# Altium schematic symbol library PPPC192LFBN-RC.SchLib: 2 symbols
Pins are listed as number, name and electrical type; pins without a type are passive.

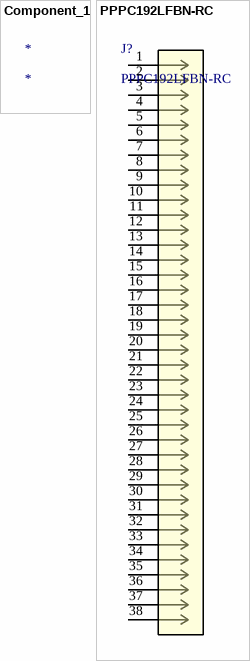
[diagram p0: symbols Component_1 to PPPC192LFBN-RC]

## Component_1
designator *

## PPPC192LFBN-RC
designator J?
No Description Available; Manufacturer_Name: Sullins; Copyright: Copyright (C) 2025 Ultra Librarian. All rights reserved.; Manufacturer_Part_Number: PPPC192LFBN-RC; RefDes: RefDes; Type: Type
footprint CONN_PPPC192LFBN-RC_SUL
pins: 1, 2, 3, 4, 5, 6, 7, 8, 9, 10, 11, 12, 13, 14, 15, 16, 17, 18, 19, 20, 21, 22, 23, 24, 25, 26, 27, 28, 29, 30, 31, 32, 33, 34, 35, 36, 37, 38